# Altium schematic symbol library OpticalFlowExt.SchLib: 4 symbols
Pins are listed as number, name and electrical type; pins without a type are passive.

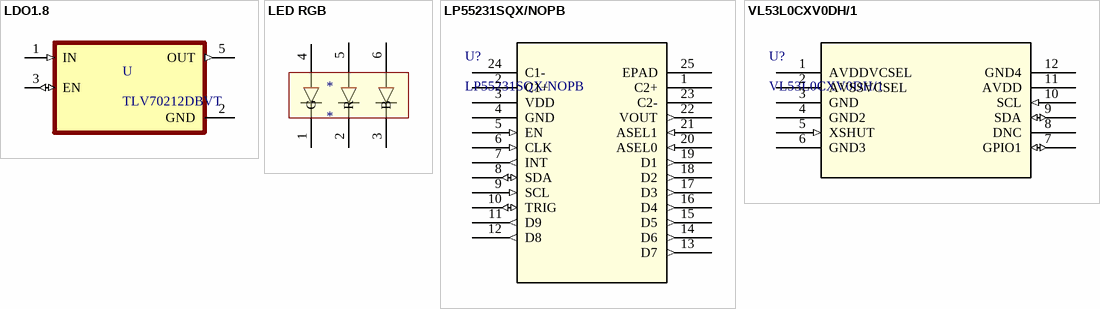
[diagram p0: symbols LDO1.8 to VL53L0CXV0DH/1]

## LDO1.8
designator U, comment TLV70212DBVT
300-mA, high-PSRR, low-IQ, low-dropout voltage regulator with enable 5-SOT-23 -40 to 125; MF: Texas Instruments; Availability: Unavailable; Value: *; Mouser-Purchase-URL: https://snapeda.com/shop?store=Mouser&id=799111; Texas_Instruments-Purchase-URL: https://snapeda.com/shop?store=Texas+Instruments&id=799111; Package: SOT-23-5 Texas Instruments; DigiKey-Purchase-URL: https://snapeda.com/shop?store=DigiKey&id=799111; Price: None; SnapEDA_Link: https://www.snapeda.com/parts/TLV70212DBVT/Texas%20Instruments/view-part/799111/?ref=snap; MP: TLV70212DBVT
footprint SOT95P280X145-5N
pins: 1 IN (in), 2 GND (power), 3 EN (io), 5 OUT (out)

## LED RGB
designator *
703-1039 element14
footprint LED RGB
pins: 1 G, 2 R, 3 B, 4, 5, 6

## LP55231SQX/NOPB
designator U?
No Description Available; Vendor: Texas Instruments; Built_By: EMA_UL_Team; SourceLibrary: TI_2016-08-12; Manufacturer_Part_Number: LP55231SQX/NOPB; Copyright: Copyright (C) 2018 Accelerated Designs. All rights reserved; RefDes: RefDes; Type: DEV
footprint RTW24_TEX
pins: 1 C2+, 2 C1+, 3 VDD (power), 4 GND (power), 5 EN (in), 6 CLK (in), 7 INT (out), 8 SDA (io), 9 SCL (in), 10 TRIG (io), 11 D9 (out), 12 D8 (out), 13 D7 (out), 14 D6 (out), 15 D5 (out), 16 D4 (out), 17 D3 (out), 18 D2 (out), 19 D1 (out), 20 ASEL0 (in), 21 ASEL1 (in), 22 VOUT (out), 23 C2-, 24 C1-, 25 EPAD

## VL53L0CXV0DH/1
designator U?
No Description Available; Vendor: STMicroelectronics; Built_By: EMA_Jessica; SourceLibrary: STMicro_2020-01-02; Manufacturer_Part_Number: VL53L0CXV0DH/1; Copyright: Copyright (C) 2018 Accelerated Designs. All rights reserved; RefDes: RefDes; Type: DEV
footprint LGA12_STM
pins: 1 AVDDVCSEL (power), 2 AVSSVCSEL (power), 3 GND (power), 4 GND2 (power), 5 XSHUT (in), 6 GND3 (power), 7 GPIO1 (io), 8 DNC, 9 SDA (io), 10 SCL (in), 11 AVDD (power), 12 GND4 (power)